# EAGLE library part WANNENSTECKER-16 (library iceberg20)
Bitte hier mit dem Befehl Description eine passende Beschreibung angeben (kann kurz sein) und Datenblatt verlinken Datenblatt: Link <https://www.iceberg-robots.de/>
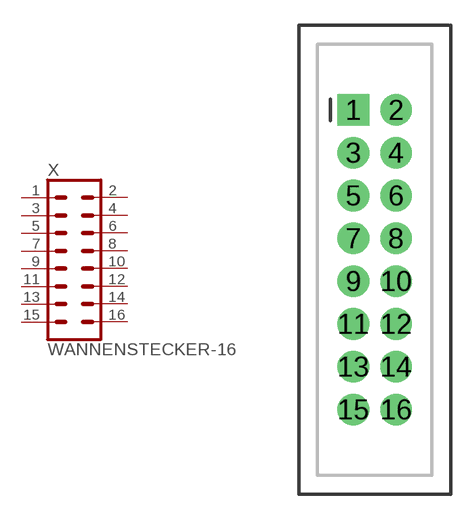
[diagram p17: symbol with the pads of 2X8; footprint 2X8]

Designator prefix X

## WANNENSTECKER-16  [2X8]
1  1  pas
2  2  pas
3  3  pas
4  4  pas
5  5  pas
6  6  pas
7  7  pas
8  8  pas
9  9  pas
10  10  pas
11  11  pas
12  12  pas
13  13  pas
14  14  pas
15  15  pas
16  16  pas

## Footprint 2X8 (pad centres in mm)
Plated Through Hole - 2x3 Shrouded Header Specifications: Pin count:6 Pin pitch:0.1" Datasheet referenced for footprint <https://www.sparkfun.com/datasheets/Prototyping/Shrouded-10pin.pdf> Example device(s): CONN_03x2
drill 1 pad 1.88 square: 1 -1.27,2.54
drill 1 pad 1.88: 2 1.27,2.54; 3 -1.27,0; 4 1.27,0; 5 -1.27,-2.54; 6 1.27,-2.54; 7 -1.27,-5.08; 8 1.27,-5.08; 9 -1.27,-7.62; 10 1.27,-7.62; 11 -1.27,-10.16; 12 1.27,-10.16; 13 -1.27,-12.7; 14 1.27,-12.7; 15 -1.27,-15.24; 16 1.27,-15.24